# EAGLE library part SINGLESTRIP (library ws2812b)
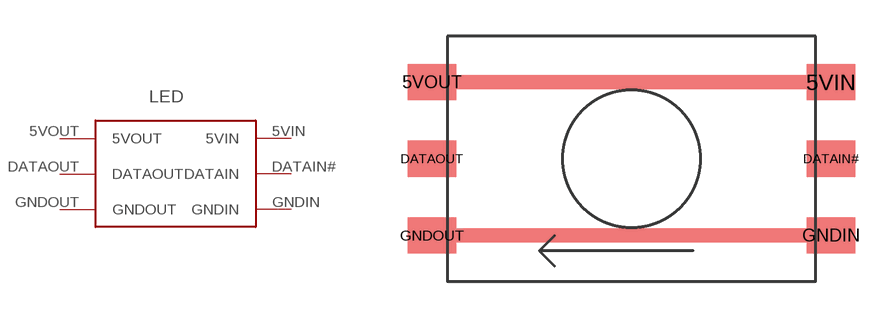
[diagram p2: symbol with the pads of SINGLESTRIP; footprint SINGLESTRIP]

Designator prefix LED

## SINGLESTRIP  [SINGLESTRIP]
5VIN  5VIN  pwr
5VOUT  5VOUT  pwr
DATAIN#  DATAIN  in
DATAOUT  DATAOUT  out
GNDIN  GNDIN  pwr
GNDOUT  GNDOUT  pwr

## Footprint SINGLESTRIP (pad centres in mm)
smd 2 x 1.5: 5VIN 15.875,8.255; 5VOUT -0.635,8.255; DATAIN# 15.875,5.08; DATAOUT -0.635,5.08; GNDIN 15.875,1.905; GNDOUT -0.635,1.905